# Altium footprint library con-other.PcbLib: 23 footprints (part 1 of 2)
Each footprint in its own frame and in the unit in brackets; x right, y up, seen from the top. Pads: shape width x height; smd on the part's side, far side on the other; paste and mask are expansions set on the pad; w line width, h text height; cw(c..) or ccw(c..) is an arc to the next point about the centre after c.
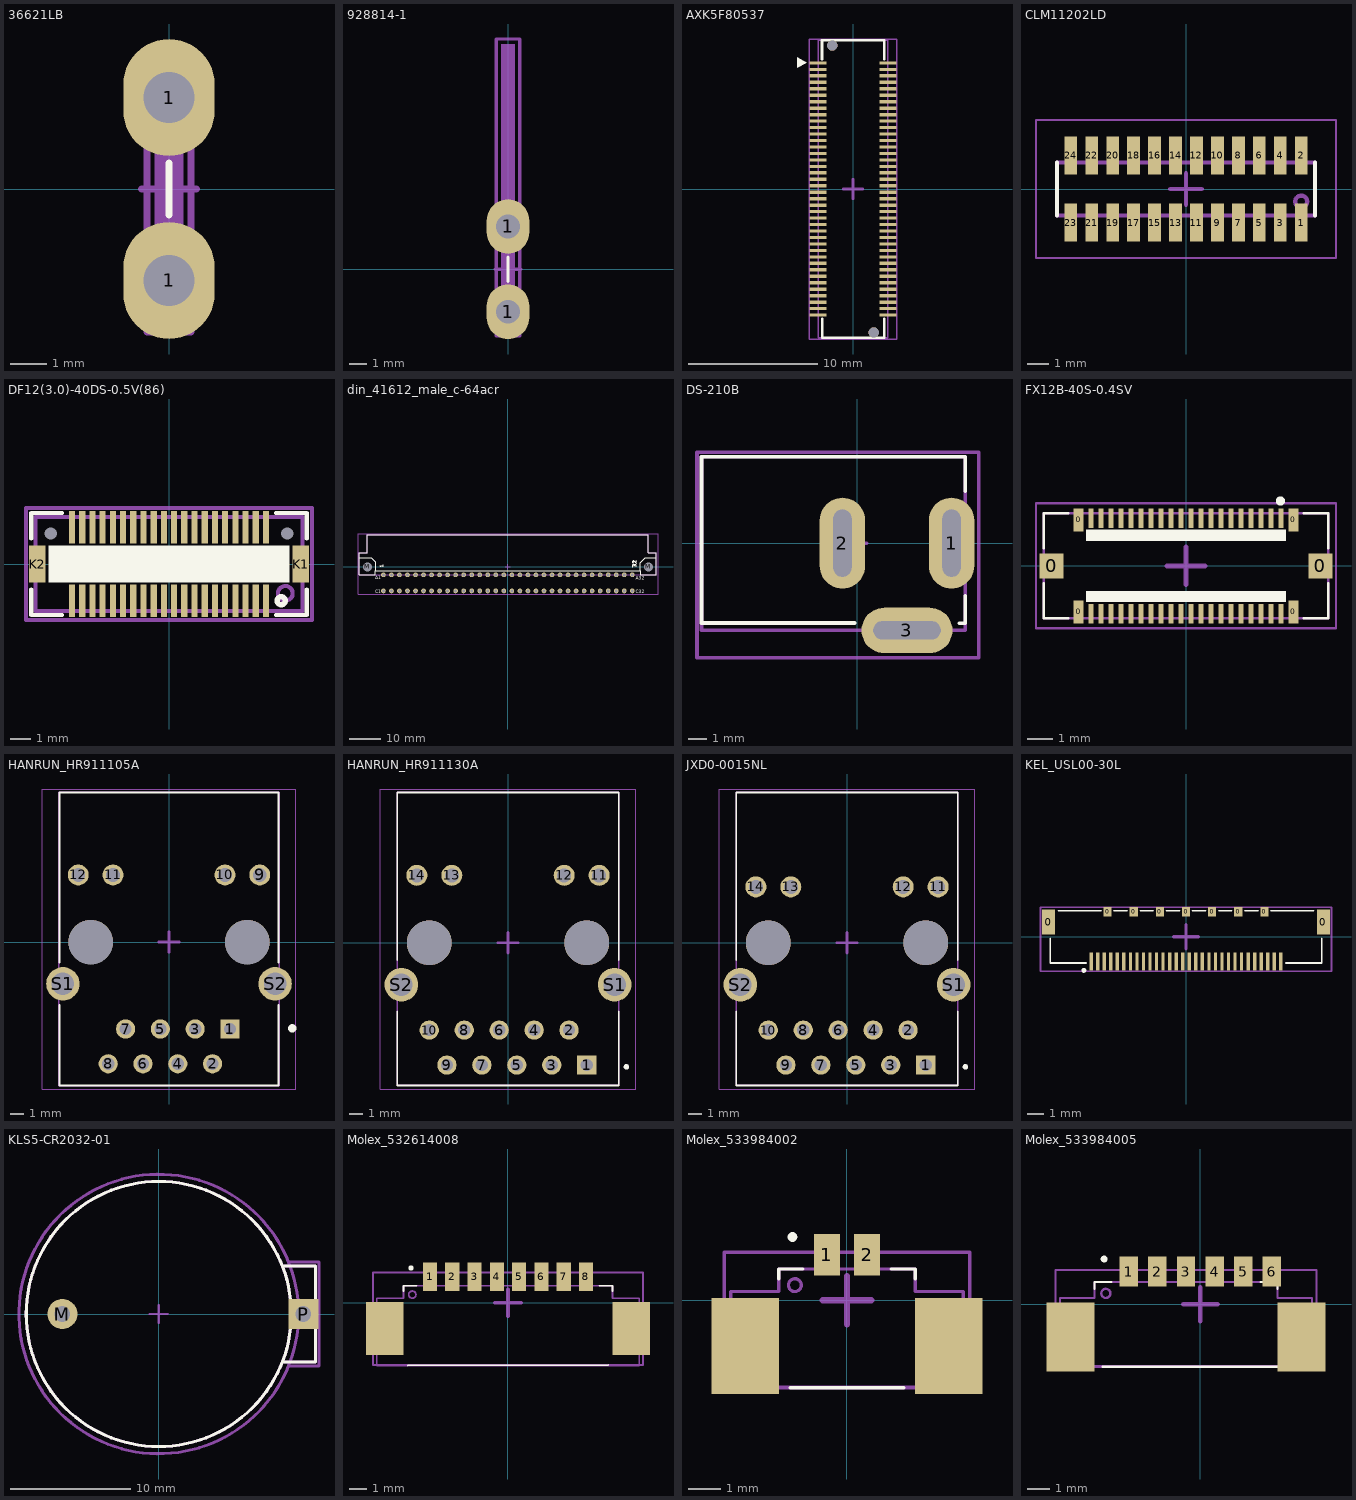
[diagram p0: the footprints below, top view; thin cyan lines are the x and y axes]

## 36621LB [mm] "6.3mm PCB terminal"
height 7
pads (2):
  oval 2.5x3.2 hole 1.4: 1(0,-2.5) 1(0,2.5)
Top Overlay:
  lines w0.2: 0,-0.7 0,0.7
Top Assembly (Mech3):
  rectangle: -0.4,-4 0.4,4
Top Courtyard:
  lines w0.2: -0.75,0 0.75,0 ; 0,-0.75 0,0.75 ; -0.6,-3.9 -0.6,3.8 0.6,3.8 0.6,-3.9 -0.6,-3.9
3D body "User Library-Tab_ 6_3x8_straight.step": height 10.6, standoff -3.6, extent -0.4,-4 0.4,4

## 928814-1 [mm] "6.3mm PCB terminal Right Angle"
height 7
pads (2):
  oval 2.5x3.2 hole 1.4: 1(0,-2.5) 1(0,2.5)
Top Overlay:
  lines w0.2: 0,-0.7 0,0.7
Top Assembly (Mech3):
  rectangle: -0.4,-3.3 0.4,13.2
Top Courtyard:
  lines w0.2: -0.75,0 0.75,0 ; 0,-0.75 0,0.75 ; -0.7,-3.9 -0.7,13.5 0.7,13.5 0.7,-3.9 -0.7,-3.9
3D body "User Library-TycoElectronics 928814 - SOLDER TAB 6_3X0_8 FOR PCB.step": height 8.1, standoff -3, extent -0.4,-2.8 0.4,13.2

## AXK5F80537 [mm]
height 2
pads (82):
  rect 1.3x0.25 smd mask+0.05: 1(-2.7,9.75) 2(2.7,9.75) 3(-2.7,9.25) 4(2.7,9.25) 5(-2.7,8.75) 6(2.7,8.75) 7(-2.7,8.25) 8(2.7,8.25) 9(-2.7,7.75) 10(2.7,7.75) 11(-2.7,7.25) 12(2.7,7.25) 13(-2.7,6.75) 14(2.7,6.75) 15(-2.7,6.25) 16(2.7,6.25) 17(-2.7,5.75) 18(2.7,5.75) 19(-2.7,5.25) 20(2.7,5.25) 21(-2.7,4.75) 22(2.7,4.75) 23(-2.7,4.25) 24(2.7,4.25) 25(-2.7,3.75) 26(2.7,3.75) 27(-2.7,3.25) 28(2.7,3.25) 29(-2.7,2.75) 30(2.7,2.75) 31(-2.7,2.25) 32(2.7,2.25) 33(-2.7,1.75) 34(2.7,1.75) 35(-2.7,1.25) 36(2.7,1.25) 37(-2.7,0.75) 38(2.7,0.75) 39(-2.7,0.25) 40(2.7,0.25) 41(-2.7,-0.25) 42(2.7,-0.25) 43(-2.7,-0.75) 44(2.7,-0.75) 45(-2.7,-1.25) 46(2.7,-1.25) 47(-2.7,-1.75) 48(2.7,-1.75) 49(-2.7,-2.25) 50(2.7,-2.25) 51(-2.7,-2.75) 52(2.7,-2.75) 53(-2.7,-3.25) 54(2.7,-3.25) 55(-2.7,-3.75) 56(2.7,-3.75) 57(-2.7,-4.25) 58(2.7,-4.25) 59(-2.7,-4.75) 60(2.7,-4.75) 61(-2.7,-5.25) 62(2.7,-5.25) 63(-2.7,-5.75) 64(2.7,-5.75) 65(-2.7,-6.25) 66(2.7,-6.25) 67(-2.7,-6.75) 68(2.7,-6.75) 69(-2.7,-7.25) 70(2.7,-7.25) 71(-2.7,-7.75) 72(2.7,-7.75) 73(-2.7,-8.25) 74(2.7,-8.25) 75(-2.7,-8.75) 76(2.7,-8.75) 77(-2.7,-9.25) 78(2.7,-9.25) 79(-2.7,-9.75) 80(2.7,-9.75)
  round 0.8 hole 0.8 unplated: ""(-1.6,11.1) ""(1.6,-11.1)
Top Overlay:
  region: -4.332,9.382 -4.332,10.182 -3.592,9.782
  lines w0.2: -2.4,10.05 -2.4,11.5 2.4,11.5 2.4,10.05 ; -2.387,-10.05 -2.387,-11.5 2.413,-11.5 2.413,-10.05
Top Assembly (Mech3):
  lines w0.1: -2.7,-11.5 2.7,-11.5 2.7,11.5 -2.7,11.5 -2.7,-11.5
Top Courtyard:
  lines w0.1: -3.4,-11.6 3,-11.6 3.4,-11.6 3.4,11.6 -3.4,11.6 -3.4,-11.6
  lines w0.2: -0.75,0 0.75,0 ; 0,-0.75 0,0.75
3D body "User Library-axk5f80537yg.STEP": height 1.87, standoff -0.3, extent -2.7,-11.5 2.7,11.5

## CLM11202LD [mm] "1mm pitch smd socket"
height 2.41
pads (24):
  rect 0.61x1.8 smd: 1(5.5,-1.601) 2(5.5,1.601) 3(4.5,-1.601) 4(4.5,1.601) 5(3.5,-1.601) 6(3.5,1.601) 7(2.5,-1.601) 8(2.5,1.601) 9(1.5,-1.601) 10(1.5,1.601) 11(0.5,-1.601) 12(0.5,1.601) 13(-0.5,-1.601) 14(-0.5,1.601) 15(-1.5,-1.601) 16(-1.5,1.601) 17(-2.5,-1.601) 18(-2.5,1.601) 19(-3.5,-1.601) 20(-3.5,1.601) 21(-4.5,-1.601) 22(-4.5,1.601) 23(-5.5,-1.601) 24(-5.5,1.601)
Top Overlay:
  lines w0.2: -6.159,-1.27 -6.159,1.27 ; 6.159,-1.27 6.159,1.27
Top Assembly (Mech3):
  circle w0.2: c5.5,-0.6 r0.283
  lines w0.2: -6.159,-1.27 6.159,-1.27 6.159,1.27 -6.159,1.27 -6.159,-1.27
Top Courtyard:
  lines w0.1: -7.159,-3.286 7.159,-3.286 7.159,3.286 -7.159,3.286 -7.159,-3.286
  lines w0.2: -0.75,0 0.75,0 ; 0,-0.75 0,0.75
Mechanical 13:
  lines w0.2: -6.159,-1.27 6.159,-1.27 6.159,1.27 -6.159,1.27 -6.159,-1.27
3D body: height 2.26, standoff 0, extent -6.159,-1.27 6.159,1.27

## DF12(3.0)-40DS-0.5V(86) [mm]
height 2.2
pads (44):
  rect 0.3x1.6 smd: 1(4.75,-1.8) 2(4.75,1.8) 3(4.25,-1.8) 4(4.25,1.8) 5(3.75,-1.8) 6(3.75,1.8) 7(3.25,-1.8) 8(3.25,1.8) 9(2.75,-1.8) 10(2.75,1.8) 11(2.25,-1.8) 12(2.25,1.8) 13(1.75,-1.8) 14(1.75,1.8) 15(1.25,-1.8) 16(1.25,1.8) 17(0.75,-1.8) 18(0.75,1.8) 19(0.25,-1.8) 20(0.25,1.8) 21(-0.25,-1.8) 22(-0.25,1.8) 23(-0.75,-1.8) 24(-0.75,1.8) 25(-1.25,-1.8) 26(-1.25,1.8) 27(-1.75,-1.8) 28(-1.75,1.8) 29(-2.25,-1.8) 30(-2.25,1.8) 31(-2.75,-1.8) 32(-2.75,1.8) 33(-3.25,-1.8) 34(-3.25,1.8) 35(-3.75,-1.8) 36(-3.75,1.8) 37(-4.25,-1.8) 38(-4.25,1.8) 39(-4.75,-1.8) 40(-4.75,1.8)
  rect 0x0 hole 0.6 unplated: H1(-5.8,1.5) H2(5.8,1.5)
  rect 0.8x1.8 smd: K1(6.45,0) K2(-6.45,0)
Top Overlay:
  circle w0.254: c5.5,-1.8 r0.2
  rectangle: -5.9,-0.9 5.9,0.9
  lines w0.2: -6.75,-1.25 -6.75,-2.5 -5.25,-2.5 ; -6.75,1.25 -6.75,2.5 -5.25,2.5 ; 5.25,-2.5 6.75,-2.5 6.75,-1.25 ; 5.25,2.5 6.75,2.5 6.75,1.25
Top Assembly (Mech3):
  circle w0.2: c5.7,-1.44 r0.36
  lines w0.2: -6.55,-2.3 -6.55,2.3 6.55,2.3 6.55,-2.3 -6.55,-2.3
Top Courtyard:
  lines w0.2: -0.75,0 0.75,0 ; -0.5,0 0.5,0 ; 0,-0.75 0,0.75 ; 0,-0.5 0,0.5 ; -7,-2.75 7,-2.75 7,2.75 -7,2.75 -7,-2.75
3D body "DF12-40DS-0.5V.stp": height 2.7, standoff -0.6, extent -6.55,-2.3 6.55,2.3

## din_41612_male_c-64acr [mm] "DIN41612R A-C rows (64pin)"
height 11
pads (66):
  round 1.5 hole 0.9: A1(-39.37,-2.54) A2(-36.83,-2.54) A3(-34.29,-2.54) A4(-31.75,-2.54) A5(-29.21,-2.54) A6(-26.67,-2.54) A7(-24.13,-2.54) A8(-21.59,-2.54) A9(-19.05,-2.54) A10(-16.51,-2.54) A11(-13.97,-2.54) A12(-11.43,-2.54) A13(-8.89,-2.54) A14(-6.35,-2.54) A15(-3.81,-2.54) A16(-1.27,-2.54) A17(1.27,-2.54) A18(3.81,-2.54) A19(6.35,-2.54) A20(8.89,-2.54) A21(11.43,-2.54) A22(13.97,-2.54) A23(16.51,-2.54) A24(19.05,-2.54) A25(21.59,-2.54) A26(24.13,-2.54) A27(26.67,-2.54) A28(29.21,-2.54) A29(31.75,-2.54) A30(34.29,-2.54) A31(36.83,-2.54) A32(39.37,-2.54) C1(-39.37,-7.62) C2(-36.83,-7.62) C3(-34.29,-7.62) C4(-31.75,-7.62) C5(-29.21,-7.62) C6(-26.67,-7.62) C7(-24.13,-7.62) C8(-21.59,-7.62) C9(-19.05,-7.62) C10(-16.51,-7.62) C11(-13.97,-7.62) C12(-11.43,-7.62) C13(-8.89,-7.62) C14(-6.35,-7.62) C15(-3.81,-7.62) C16(-1.27,-7.62) C17(1.27,-7.62) C18(3.81,-7.62) C19(6.35,-7.62) C20(8.89,-7.62) C21(11.43,-7.62) C22(13.97,-7.62) C23(16.51,-7.62) C24(19.05,-7.62) C25(21.59,-7.62) C26(24.13,-7.62) C27(26.67,-7.62) C28(29.21,-7.62) C29(31.75,-7.62) C30(34.29,-7.62) C31(36.83,-7.62) C32(39.37,-7.62)
  round 2.5 hole 2.8: M(-44.45,0) M(44.45,0)
Top Overlay:
  lines w0.064: 39.402,0.064 ccw(c39.433,0.064) 39.465,0.063 ; 39.678,1.176 ccw(c39.687,1.206) 39.697,1.237 ; 39.91,0.191 ccw(c39.941,0.191) 39.973,0.191 ; 39.91,0.381 ccw(c39.941,0.381) 39.973,0.381 ; 39.919,1.724 ccw(c39.941,1.746) 39.964,1.768 ; 39.921,1.722 cw(c39.941,1.746) 39.962,1.77 ; 40.545,0.064 ccw(c40.576,0.064) 40.608,0.063 ; 40.545,1.206 ccw(c40.576,1.206) 40.608,1.206 ; 40.545,1.841 cw(c40.576,1.841) 40.608,1.841 ; 40.556,1.182 ccw(c40.576,1.206) 40.597,1.231 ; 39.402,0.445 ccw(c39.433,0.445) 39.465,0.445 ccw(c39.433,0.445) 39.402,0.445 ; 39.402,1.556 cw(c39.433,1.556) 39.465,1.556 cw(c39.433,1.556) 39.402,1.556 ; 39.719,1.81 cw(c39.719,1.841) 39.719,1.873 cw(c39.719,1.842) 39.719,1.81 ; 39.91,0.445 cw(c39.941,0.445) 39.973,0.445 cw(c39.941,0.445) 39.91,0.445 ; 40.545,0.381 ccw(c40.576,0.381) 40.608,0.381 ccw(c40.576,0.381) 40.545,0.381
  lines w0.127: -40.322,0.064 -40.576,0.381 -39.433,0.381 ; -39.433,0.064 -39.433,0.699 ; 39.433,0.064 39.433,0.445 cw(c39.688,0.445) 39.941,0.445 39.941,0.191 ; 39.687,1.207 cw(c39.801,1.556) 39.434,1.556 cw(c39.719,1.556) 39.719,1.841 cw(c39.719,1.535) 39.941,1.746 40.576,1.206 40.576,1.841 ; 39.941,0.381 cw(c40.259,0.381) 40.576,0.381 40.576,0.064
  lines w0.254: -46.99,2.87 -46.99,4.445 -44.45,4.445 -44.45,10.16 44.45,10.16 44.45,4.445 46.99,4.445 46.99,2.87 ; -46.99,2.87 -43.18,2.87 -41.91,1.6 -41.91,-1.27 ; -46.99,2.87 -46.99,-2.54 -41.91,-2.54 -41.91,-1.27 ; -41.91,-1.27 41.91,-1.27 ; 41.91,-1.27 41.91,1.27 43.51,2.87 46.99,2.87 ; 41.91,-1.27 41.91,-2.54 46.99,-2.54 46.99,2.87
  text "A32" at 40.5,-4.08 h1
  text "C32" at 40.5,-8.4 h1
  text "C1" at -42,-8.3 h1
  text "A1" at -42,-3.98 h1
Top Assembly (Mech3):
  lines w0.2: -46.99,-2.54 -46.99,4.445 -44.45,4.445 -44.45,10.16 44.45,10.16 44.45,4.445 46.99,4.445 46.99,-2.54 -46.99,-2.54
Top Courtyard:
  lines w0.2: -0.75,0 0.75,0 ; 0,-0.75 0,0.75 ; -47.4,-8.7 47.5,-8.7 47.5,10.5 -47.4,10.5 -47.4,-8.7
3D body "din_41612_male_c-64acr-1.stp": height 9.55, standoff -3, extent -47,-7.91 47,10.2

## DS-210B [mm]
height 6
pads (3):
  oval 2.5x5 hole 1 slot 3.7 at 90 deg: 1(5.175,0) 2(-0.825,0)
  oval 5x2.5 hole 1 slot 3.7 at 0 deg: 3(2.725,-4.8)
Top Overlay:
  lines w0.2: -0.15,-4.395 -8.575,-4.395 -8.575,4.75 5.925,4.75 5.925,2.85 ; 5.6,-4.4 5.925,-4.4 5.925,-2.9
Top Assembly (Mech3):
  lines w0.2: -8.575,-4.8 -8.575,4.75 5.925,4.75 5.925,-4.8 -8.575,-4.8
Top Courtyard:
  lines w0.2: -0.5,0 0,0 ; 0,-0.5 0,0 ; 0,0.5 0,0 ; 0.5,0 0,0 ; -8.825,-6.3 6.675,-6.3 6.675,5 -8.825,5 -8.825,-6.3
3D body "ds-210.x_t": height 11, standoff -4.4, extent -8.575,-4.8 5.925,4.75

## FX12B-40S-0.4SV [mm] "Hirose FX12 connector"
height 1.5
pads (46):
  rect 0.95x1 smd: 0(-5.375,0) 0(5.375,0)
  rect 0.4x0.92 smd: 0(-4.3,-1.84) 0(-4.3,1.84) 0(4.3,-1.84) 0(4.3,1.84)
  rect 0.2x0.78 smd: 1(3.8,1.91) 2(3.4,1.91) 3(3,1.91) 4(2.6,1.91) 5(2.2,1.91) 6(1.8,1.91) 7(1.4,1.91) 8(1,1.91) 9(0.6,1.91) 10(0.2,1.91) 11(-0.2,1.91) 12(-0.6,1.91) 13(-1,1.91) 14(-1.4,1.91) 15(-1.8,1.91) 16(-2.2,1.91) 17(-2.6,1.91) 18(-3,1.91) 19(-3.4,1.91) 20(-3.8,1.91) 21(3.8,-1.91) 22(3.4,-1.91) 23(3,-1.91) 24(2.6,-1.91) 25(2.2,-1.91) 26(1.8,-1.91) 27(1.4,-1.91) 28(1,-1.91) 29(0.6,-1.91) 30(0.2,-1.91) 31(-0.2,-1.91) 32(-0.6,-1.91) 33(-1,-1.91) 34(-1.4,-1.91) 35(-1.8,-1.91) 36(-2.2,-1.91) 37(-2.6,-1.91) 38(-3,-1.91) 39(-3.4,-1.91) 40(-3.8,-1.91)
Top Overlay:
  circle w0.254: c3.775,2.6 r0.056
  region: 4,-1 -4,-1 -4,-1.45 4,-1.45
  rectangle: -4,1 4,1.45
  lines w0.1: -5.7,-0.7 -5.7,-2.1 -4.7,-2.1 ; -5.7,0.7 -5.7,2.1 -4.7,2.1 ; 4.7,-2.1 5.7,-2.1 5.7,-0.7 ; 4.7,2.1 5.7,2.1 5.7,0.7
Top Assembly (Mech3):
  lines w0.1: -5.7,-2.1 -5.7,2.1 5.7,2.1 5.7,-2.1 -5.7,-2.1
Top Courtyard:
  lines w0.1: -6,-2.5 -6,2.5 6,2.5 6,-2.5 -6,-2.5
  lines w0.2: -0.75,0 0.75,0 ; 0,-0.75 0,0.75
3D body "FX12B-40S-0.4V.stp": height 1.18, standoff -0.02, extent -5.665,-2.1 5.665,2.1

## HANRUN_HR911105A [mm]
pads (16):
  rect 1.398x1.398 / inner round 1.398 / far side rect 1.398x1.398 hole 0.89: 1(4.45,-6.35)
  round 1.398 hole 0.89: 2(3.18,-8.89) 3(1.91,-6.35) 4(0.64,-8.89) 5(-0.63,-6.35) 6(-1.9,-8.89) 7(-3.17,-6.35) 8(-4.44,-8.89)
  round 1.53 hole 1.02: 9(6.625,4.9) 10(4.085,4.9) 11(-4.085,4.9) 12(-6.625,4.9)
  round 2.445 hole 1.63: S1(-7.745,-3.05) S2(7.745,-3.05)
  round 3.25 hole 3.25 unplated: ""(-5.715,0) ""(5.715,0)
Top Overlay:
  circle w0.3: c9,-6.3 r0.15
  lines w0.127: -8,-4.6 -8,-10.48 8,-10.48 8,-4.6 ; -8,-1.5 -8,10.92 8,10.92 8,-1.5
Top Assembly (Mech3):
  lines w0.05: -9.25,-10.73 -9.25,11.17 9.25,11.17 9.25,-10.73 -9.25,-10.73
Top Courtyard:
  lines w0.1: -8.05,-10.475 -8.05,10.925 8.05,10.925 8.05,-10.475 -8.05,-10.475
  lines w0.2: -0.75,0 0.75,0 ; 0,-0.75 0,0.75
3D body "step_temp.STEP": height 13.5, standoff -3.05, extent -8.02,-10.4 8.02,10.9

## HANRUN_HR911130A [mm] "100/1000Base-T Magnetics Single Port RJ45 Connector"
height 13.75
pads (18):
  rect 1.398x1.398 / inner round 1.398 / far side rect 1.398x1.398 hole 0.89: 1(5.72,-8.89)
  round 1.398 hole 0.89: 2(4.44,-6.35) 3(3.18,-8.89) 4(1.9,-6.35) 5(0.64,-8.89) 6(-0.64,-6.35) 7(-1.9,-8.89) 8(-3.18,-6.35) 9(-4.44,-8.89) 10(-5.72,-6.35)
  round 1.53 hole 1.02: 11(6.625,4.9) 12(4.085,4.9) 13(-4.085,4.9) 14(-6.625,4.9)
  round 2.445 hole 1.63: S1(7.745,-3.05) S2(-7.745,-3.05)
  round 3.25 hole 3.25 unplated: ""(-5.715,0) ""(5.715,0)
Top Overlay:
  circle w0.2: c8.607,-9.017 r0.1
  lines w0.127: -8.05,-5 -8.05,-10.38 8.05,-10.38 8.05,-5 ; -8.05,-1.25 -8.05,10.92 8.05,10.92 8.05,-1.25
Top Assembly (Mech3):
  lines w0.05: -9.277,-10.63 -9.277,11.17 9.277,11.17 9.277,-10.63 -9.277,-10.63
Top Courtyard:
  lines w0.1: -8.05,-10.375 8.05,-10.375 8.05,10.925 -8.05,10.925 -8.05,-10.375
  lines w0.2: -0.75,0 0.75,0 ; 0,-0.75 0,0.75
3D body "step_temp.STEP": height 13.5, standoff -3.05, extent -8.02,-10.4 8.02,10.9

## JXD0-0015NL [mm] "100/1000Base-T Magnetics Single Port RJ45 Connector"
height 13.75
pads (18):
  rect 1.398x1.398 / inner round 1.398 / far side rect 1.398x1.398 hole 0.89: 1(5.72,-8.89)
  round 1.398 hole 0.89: 2(4.44,-6.35) 3(3.18,-8.89) 4(1.9,-6.35) 5(0.64,-8.89) 6(-0.64,-6.35) 7(-1.9,-8.89) 8(-3.18,-6.35) 9(-4.44,-8.89) 10(-5.72,-6.35)
  round 1.53 hole 1.02: 11(6.625,4.06) 12(4.085,4.06) 13(-4.085,4.06) 14(-6.625,4.06)
  round 2.445 hole 1.63: S1(7.745,-3.05) S2(-7.745,-3.05)
  round 3.25 hole 3.25 unplated: ""(-5.715,0) ""(5.715,0)
Top Overlay:
  circle w0.2: c8.607,-9.017 r0.1
  lines w0.127: -8.05,-5 -8.05,-10.38 8.05,-10.38 8.05,-5 ; -8.05,-1.25 -8.05,10.92 8.05,10.92 8.05,-1.25
Top Assembly (Mech3):
  lines w0.05: -9.277,-10.63 9.277,-10.63 9.277,11.17 -9.277,11.17 -9.277,-10.63
Top Courtyard:
  lines w0.1: -8.05,-10.375 -8.05,10.925 8.05,10.925 8.05,-10.375 -8.05,-10.375
  lines w0.2: -0.75,0 0.75,0 ; 0,-0.75 0,0.75
3D body "JXD0-0015NL_3D.STEP": height 3.3, standoff -16, extent -10,-10.6 10,10.75

## KEL_USL00-30L [mm] "Micro-coax 30 pin 0.4 mm pitch right angle"
height 1
pads (39):
  rect 0.8x1.55 smd: 0(-8.4,0.9) 0(8.4,0.9)
  rect 0.5x0.6 smd: 0(-4.8,1.53) 0(-3.2,1.53) 0(-1.6,1.53) 0(0,1.53) 0(1.6,1.53) 0(3.2,1.53) 0(4.8,1.53)
  rect 0.2x1.1 smd: 1(-5.8,-1.5) 2(-5.4,-1.5) 3(-5,-1.5) 4(-4.6,-1.5) 5(-4.2,-1.5) 6(-3.8,-1.5) 7(-3.4,-1.5) 8(-3,-1.5) 9(-2.6,-1.5) 10(-2.2,-1.5) 11(-1.8,-1.5) 12(-1.4,-1.5) 13(-1,-1.5) 14(-0.6,-1.5) 15(-0.2,-1.5) 16(0.2,-1.5) 17(0.6,-1.5) 18(1,-1.5) 19(1.4,-1.5) 20(1.8,-1.5) 21(2.2,-1.5) 22(2.6,-1.5) 23(3,-1.5) 24(3.4,-1.5) 25(3.8,-1.5) 26(4.2,-1.5) 27(4.6,-1.5) 28(5,-1.5) 29(5.4,-1.5) 30(5.8,-1.5)
Top Overlay:
  circle w0.2: c-6.25,-2.05 r0.05
  lines w0.1: -8.3,-0.1 -8.3,-1.6 -6.1,-1.6 ; -7.8,1.6 -5.2,1.6 ; -4.4,1.6 -3.6,1.6 ; -2.8,1.6 -2,1.6 ; -1.2,1.6 -0.4,1.6 ; 0.4,1.6 1.2,1.6 ; 2,1.6 2.8,1.6 ; 3.6,1.6 4.4,1.6 ; 5.2,1.6 7.8,1.6 ; 6.1,-1.6 8.3,-1.6 8.3,-0.1
Top Courtyard:
  lines w0.1: -8.9,-2.1 -8.9,1.8 8.9,1.8 8.9,-2.1 -8.9,-2.1
  lines w0.2: -0.75,0 0.75,0 ; 0,-0.75 0,0.75
3D body "usl00-30l_p0-4_l16-6_w2-75.stp": height 1, standoff 0, extent -8.3,-1.575 8.3,1.525

## KLS5-CR2032-01 [mm] "TH Horizontal CR2032 battery holder"
pads (2):
  round 2.5 hole 1.3: M(-8,0)
  rect 2.5x2.5 hole 1.3: P(12,0)
Top Overlay:
  circle w0.254: c0,0 r11
  lines w0.25: 10.3,-4 13,-4 13,4 10.3,4
Top Assembly (Mech3):
  circle w0.254: c0,0 r11
  lines w0.25: 10.3,-4 13,-4 13,4 10.3,4
Top Courtyard:
  circle w0.254: c0,0 r11.6
  lines w0.2: -0.75,0 0.75,0 ; 0,-0.75 0,0.75
  lines w0.25: 10.8,-4.3 13.3,-4.3 13.3,4.3 10.8,4.3
3D body "KLS5-CR2032-01 battery holder.stp": height 8.7, standoff -3.8, extent -11.038,-11.05 13.25,11.05

## Molex_532614008 [mm] "1.25mm Pitch Header, Surface Mount, Right-Angle, 8 Circuits"
height 3.4
pads (10):
  rect 0.8x1.6 smd mask+0.1: 1(-4.375,1.45) 2(-3.125,1.45) 3(-1.875,1.45) 4(-0.625,1.45) 5(0.625,1.45) 6(1.875,1.45) 7(3.125,1.45) 8(4.375,1.45)
  rect 2.1x3 smd mask+0.1: ""(-6.925,-1.45) ""(6.925,-1.45)
Top Overlay:
  circle w0.2: c-5.45,1.95 r0.05
  lines w0.1: -5.875,0.65 -5.875,0.95 -5.125,0.95 ; -5.625,-3.525 5.625,-3.504 ; 5.125,0.95 5.875,0.95 5.875,0.65
Top Assembly (Mech3):
  circle w0.1: c-5.375,0.45 r0.2
  lines w0.1: -7.375,-3.525 -7.375,0.25 -5.875,0.25 -5.875,0.95 5.875,0.95 5.875,0.25 7.375,0.25 7.375,-3.525 -7.375,-3.525
Top Courtyard:
  lines w0.1: -7.575,-3.5 -7.575,1.7 7.575,1.7 7.575,-3.5 -7.575,-3.5
  lines w0.2: -0.75,0 0.75,0 ; 0,-0.75 0,0.75
3D body "532610871.stp": height 3.4, standoff 0, extent -7.575,-3.5 7.575,1.7

## Molex_533984002 [mm] "1.25mm Pitch PicoBlade™ Header, Surface Mount, Vertical, 2 Circuits"
height 4.7
pads (4):
  rect 0.8x1.3 smd mask+0.1: 1(-0.625,1.425) 2(0.625,1.425)
  rect 2.1x3 smd mask+0.1: ""(-3.175,-1.425) ""(3.175,-1.425)
Top Overlay:
  circle w0.2: c-1.7,1.975 r0.05
  lines w0.1: -2.125,0.675 -2.125,0.975 -1.375,0.975 ; -1.775,-2.725 1.775,-2.725 ; 1.375,0.975 2.125,0.975 2.125,0.675
Top Assembly (Mech3):
  circle w0.1: c-1.625,0.475 r0.2
  lines w0.1: -3.625,-2.725 -3.625,0.275 -2.125,0.275 -2.125,0.975 2.125,0.975 2.125,0.275 3.625,0.275 3.625,-2.725 -3.625,-2.725
Top Courtyard:
  lines w0.1: -3.825,-2.7 3.825,-2.7 3.825,1.5 -3.825,1.5 -3.825,-2.7
  lines w0.2: -0.75,0 0.75,0 ; 0,-0.75 0,0.75
3D body "533980271.stp": height 4.72, standoff -0.02, extent -3.825,-2.7 3.825,1.5

## Molex_533984005 [mm] "1.25mm Pitch PicoBlade™ Header, Surface Mount, Vertical, 6 Circuits"
height 4.7
pads (8):
  rect 0.8x1.3 smd mask+0.1: 1(-3.125,1.425) 2(-1.875,1.425) 3(-0.625,1.425) 4(0.625,1.425) 5(1.875,1.425) 6(3.125,1.425)
  rect 2.1x3 smd mask+0.1: ""(-5.675,-1.425) ""(4.425,-1.425)
Top Overlay:
  circle w0.2: c-4.2,1.975 r0.05
  lines w0.1: -4.625,0.675 -4.625,0.975 -3.875,0.975 ; -4.275,-2.725 4.275,-2.725 ; 2.625,0.975 3.375,0.975 3.375,0.675
Top Assembly (Mech3):
  circle w0.1: c-4.125,0.475 r0.2
  lines w0.1: -6.125,-2.725 4.875,-2.725 4.875,0.275 3.375,0.275 3.375,0.975 -4.625,0.975 -4.625,0.275 -6.125,0.275 -6.125,-2.725
Top Courtyard:
  lines w0.1: -6.325,-2.7 5.075,-2.7 5.075,1.5 -6.325,1.5 -6.325,-2.7
  lines w0.2: -0.75,0 0.75,0 ; 0,-0.75 0,0.75
3D body "533980671.stp": height 4.72, standoff -0.02, extent -6.325,-2.7 6.325,1.5